# Altium footprint library con-hirose.PCBLIB: 71 footprints (part 2 of 6)
Each footprint in its own frame and in the unit in brackets; x right, y up, seen from the top. Pads: shape width x height; smd on the part's side, far side on the other; paste and mask are expansions set on the pad; w line width, h text height; cw(c..) or ccw(c..) is an arc to the next point about the centre after c.
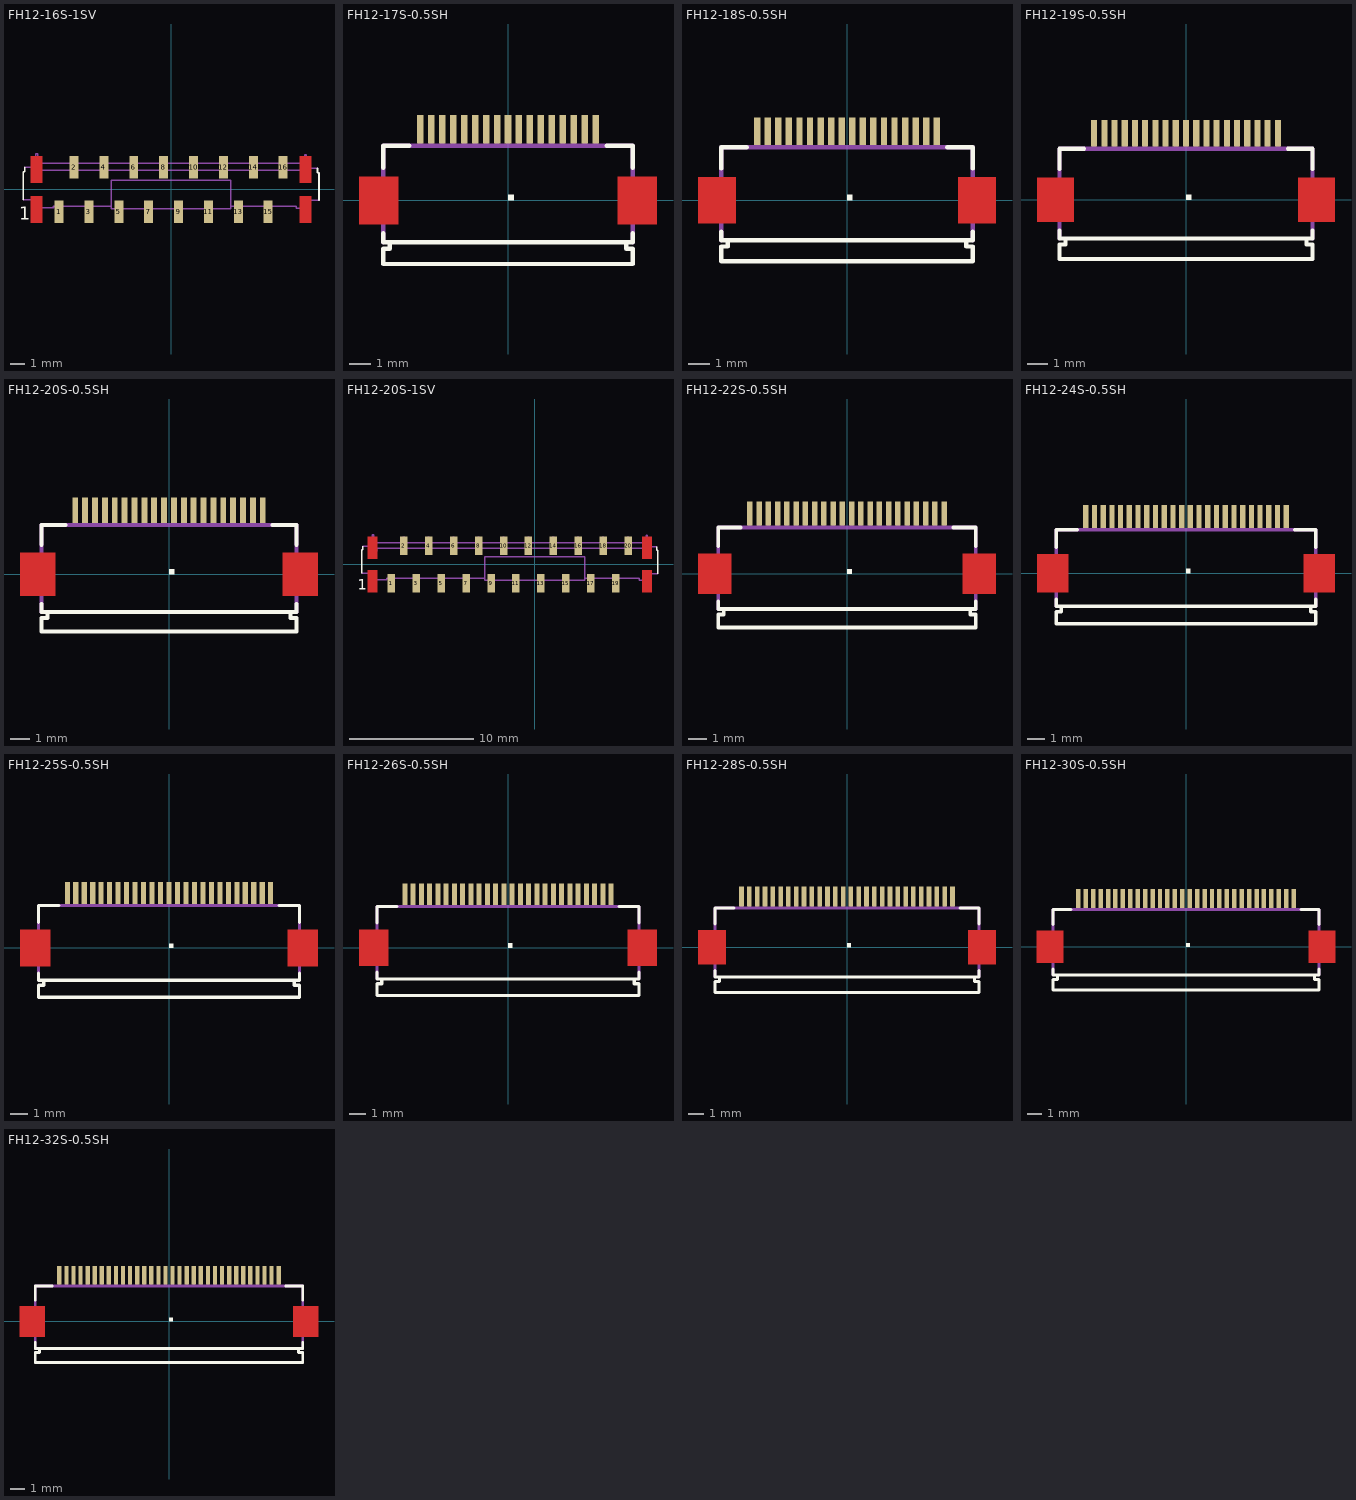
[diagram p1: the footprints below, top view; thin cyan lines are the x and y axes]

## FH12-16S-1SV [mm]
pads (16):
  rect 0.6x1.5 smd: 1(-7.5,-1.5) 2(-6.5,1.5) 3(-5.5,-1.5) 4(-4.5,1.5) 5(-3.5,-1.5) 6(-2.5,1.5) 7(-1.5,-1.5) 8(-0.5,1.5) 9(0.5,-1.5) 10(1.5,1.5) 11(2.5,-1.5) 12(3.5,1.5) 13(4.5,-1.5) 14(5.5,1.5) 15(6.5,-1.5) 16(7.5,1.5)
Top Layer:
  rectangle: -9.4,0.45 -8.6,2.25
  rectangle: -9.4,-2.25 -8.6,-0.45
  region: 9.4,-0.45 8.6,-0.45 8.6,-2.25 9.4,-2.25
  region: 9.4,2.25 8.6,2.25 8.6,0.45 9.4,0.45
Top Overlay:
  lines w0.102: -9.9,-0.697 -9.9,1.179 -9.8,1.179 -9.8,1.478 ; 9.8,1.427 9.8,1.129 9.9,1.129 9.9,-0.731
  text "1" at -10.182,-2.042 h0.86
Top Paste:
  rectangle: -7.75,-2.2 -7.25,-0.8
  rectangle: -6.75,0.8 -6.25,2.2
  rectangle: -5.75,-2.2 -5.25,-0.8
  rectangle: -4.75,0.8 -4.25,2.2
  rectangle: -3.75,-2.2 -3.25,-0.8
  rectangle: -2.75,0.8 -2.25,2.2
  rectangle: -1.75,-2.2 -1.25,-0.8
  rectangle: -0.75,0.8 -0.25,2.2
  rectangle: 0.25,-2.2 0.75,-0.8
  rectangle: 1.25,0.8 1.75,2.2
  rectangle: 2.25,-2.2 2.75,-0.8
  rectangle: 3.25,0.8 3.75,2.2
  rectangle: 4.25,-2.2 4.75,-0.8
  rectangle: 5.25,0.8 5.75,2.2
  rectangle: 6.25,-2.2 6.75,-0.8
  rectangle: 7.25,0.8 7.75,2.2
  rectangle: -9.35,0.5 -8.65,2.2
  rectangle: -9.35,-2.2 -8.65,-0.5
  region: 9.35,-0.5 8.65,-0.5 8.65,-2.2 9.35,-2.2
  region: 9.35,2.2 8.65,2.2 8.65,0.5 9.35,0.5
Top Solder:
  rectangle: -7.85,-2.3 -7.15,-0.7
  rectangle: -6.85,0.7 -6.15,2.3
  rectangle: -5.85,-2.3 -5.15,-0.7
  rectangle: -4.85,0.7 -4.15,2.3
  rectangle: -3.85,-2.3 -3.15,-0.7
  rectangle: -2.85,0.7 -2.15,2.3
  rectangle: -1.85,-2.3 -1.15,-0.7
  rectangle: -0.85,0.7 -0.15,2.3
  rectangle: 0.15,-2.3 0.85,-0.7
  rectangle: 1.15,0.7 1.85,2.3
  rectangle: 2.15,-2.3 2.85,-0.7
  rectangle: 3.15,0.7 3.85,2.3
  rectangle: 4.15,-2.3 4.85,-0.7
  rectangle: 5.15,0.7 5.85,2.3
  rectangle: 6.15,-2.3 6.85,-0.7
  rectangle: 7.15,0.7 7.85,2.3
  rectangle: -9.475,0.375 -8.525,2.325
  rectangle: -9.475,-2.325 -8.525,-0.375
  region: 9.475,-0.375 8.525,-0.375 8.525,-2.325 9.475,-2.325
  region: 9.475,2.325 8.525,2.325 8.525,0.375 9.475,0.375
Mechanical 16:
  rectangle: 7.375,0.78 7.607,1.478
  rectangle: 5.375,0.78 5.607,1.478
  rectangle: 3.375,0.78 3.607,1.478
  rectangle: 1.375,0.78 1.607,1.478
  rectangle: -0.625,0.78 -0.393,1.478
  rectangle: -2.625,0.78 -2.393,1.478
  rectangle: -4.625,0.78 -4.393,1.478
  rectangle: -6.625,0.78 -6.393,1.478
  region: 6.625,-0.78 6.393,-0.78 6.393,-1.478 6.625,-1.478
  region: 4.625,-0.78 4.393,-0.78 4.393,-1.478 4.625,-1.478
  region: 2.625,-0.78 2.393,-0.78 2.393,-1.478 2.625,-1.478
  region: 0.625,-0.78 0.393,-0.78 0.393,-1.478 0.625,-1.478
  region: -1.375,-0.78 -1.607,-0.78 -1.607,-1.478 -1.375,-1.478
  region: -3.375,-0.78 -3.607,-0.78 -3.607,-1.478 -3.375,-1.478
  region: -5.375,-0.78 -5.607,-0.78 -5.607,-1.478 -5.375,-1.478
  region: -7.375,-0.78 -7.607,-0.78 -7.607,-1.478 -7.375,-1.478
  rectangle: 7.408,1.726 7.574,2.224
  rectangle: 5.408,1.726 5.574,2.224
  rectangle: 3.408,1.726 3.574,2.224
  rectangle: 1.408,1.726 1.574,2.224
  rectangle: -0.592,1.726 -0.426,2.224
  rectangle: -2.592,1.726 -2.426,2.224
  rectangle: -4.592,1.726 -4.426,2.224
  rectangle: -6.592,1.726 -6.426,2.224
  lines w0.102: -9.9,-0.697 -9.285,-0.697 -9.285,-1.145 -9.153,-1.145 -9.153,-1.228 -7.872,-1.228 -7.872,-1.129 -4.008,-1.129 ; -9.8,1.478 -9.053,1.478 -9.053,2.39 -8.92,2.39 -8.92,1.743 8.821,1.743 ; -9.053,-1.278 -9.053,-1.378 -8.904,-1.378 -8.904,-1.278 ; -8.804,1.71 -8.804,1.046 -8.688,1.046 -8.688,1.278 8.688,1.278 8.688,0.979 8.821,0.979 8.821,1.743 ; -4.002,0.614 -4.002,-1.278 4.002,-1.278 4.002,-1.129 ; -4,0.614 4,0.614 ; 4.002,0.614 4.002,-1.129 ; 8.92,-1.311 8.92,-1.411 9.07,-1.411 9.07,-1.311 ; 9.8,1.427 9.053,1.427 9.053,2.324 8.937,2.324 8.937,1.693 8.821,1.743 ; 9.9,-0.731 9.302,-0.731 9.302,-1.195 9.153,-1.195 9.153,-1.262 8.389,-1.262 8.389,-1.129 4.002,-1.129

## FH12-17S-0.5SH [mm]
pads (17):
  rect 0.3x1.3 smd: 1(-4,3.25) 2(-3.5,3.25) 3(-3,3.25) 4(-2.5,3.25) 5(-2,3.25) 6(-1.5,3.25) 7(-1,3.25) 8(-0.5,3.25) 9(0,3.25) 10(0.5,3.25) 11(1,3.25) 12(1.5,3.25) 13(2,3.25) 14(2.5,3.25) 15(3,3.25) 16(3.5,3.25) 17(4,3.25)
Top Layer:
  region: 6.8,1.1 5,1.1 5,-1.1 6.8,-1.1
  region: -5,1.1 -6.8,1.1 -6.8,-1.1 -5,-1.1
Top Overlay:
  region: 0,0 0.254,0 0.254,0.254 0,0.254
  lines w0.203: -5.7,-1.5 -5.7,-1.9 -5.4,-1.9 ; -5.7,1.5 -5.7,2.5 -4.5,2.5 ; 4.5,2.5 5.7,2.5 5.7,1.5 ; 5.7,-1.5 5.7,-1.9 5.4,-1.9 ; -5.4,-1.9 -5.4,-2.2 -5.7,-2.2 -5.7,-2.9 5.7,-2.9 5.7,-2.2 5.4,-2.2 5.4,-1.9 ; -5.4,-1.9 5.4,-1.9
Top Paste:
  rectangle: -4.125,2.625 -3.875,3.875
  rectangle: -3.625,2.625 -3.375,3.875
  rectangle: -3.125,2.625 -2.875,3.875
  rectangle: -2.625,2.625 -2.375,3.875
  rectangle: -2.125,2.625 -1.875,3.875
  rectangle: -1.625,2.625 -1.375,3.875
  rectangle: -1.125,2.625 -0.875,3.875
  rectangle: -0.625,2.625 -0.375,3.875
  rectangle: -0.125,2.625 0.125,3.875
  rectangle: 0.375,2.625 0.625,3.875
  rectangle: 0.875,2.625 1.125,3.875
  rectangle: 1.375,2.625 1.625,3.875
  rectangle: 1.875,2.625 2.125,3.875
  rectangle: 2.375,2.625 2.625,3.875
  rectangle: 2.875,2.625 3.125,3.875
  rectangle: 3.375,2.625 3.625,3.875
  rectangle: 3.875,2.625 4.125,3.875
  region: 6.725,1.025 5.075,1.025 5.075,-1.025 6.725,-1.025
  region: -5.075,1.025 -6.725,1.025 -6.725,-1.025 -5.075,-1.025
Top Solder:
  rectangle: -4.2,2.55 -3.8,3.95
  rectangle: -3.7,2.55 -3.3,3.95
  rectangle: -3.2,2.55 -2.8,3.95
  rectangle: -2.7,2.55 -2.3,3.95
  rectangle: -2.2,2.55 -1.8,3.95
  rectangle: -1.7,2.55 -1.3,3.95
  rectangle: -1.2,2.55 -0.8,3.95
  rectangle: -0.7,2.55 -0.3,3.95
  rectangle: -0.2,2.55 0.2,3.95
  rectangle: 0.3,2.55 0.7,3.95
  rectangle: 0.8,2.55 1.2,3.95
  rectangle: 1.3,2.55 1.7,3.95
  rectangle: 1.8,2.55 2.2,3.95
  rectangle: 2.3,2.55 2.7,3.95
  rectangle: 2.8,2.55 3.2,3.95
  rectangle: 3.3,2.55 3.7,3.95
  rectangle: 3.8,2.55 4.2,3.95
  region: 6.85,1.175 4.95,1.175 4.95,-1.175 6.85,-1.175
  region: -4.95,1.175 -6.85,1.175 -6.85,-1.175 -4.95,-1.175
Mechanical 16:
  rectangle: -4.1,2.55 -3.9,3.4
  rectangle: -3.6,2.55 -3.4,3.4
  rectangle: -3.1,2.55 -2.9,3.4
  rectangle: -2.6,2.55 -2.4,3.4
  rectangle: -2.1,2.55 -1.9,3.4
  rectangle: -1.6,2.55 -1.4,3.4
  rectangle: -1.1,2.55 -0.9,3.4
  rectangle: -0.6,2.55 -0.4,3.4
  rectangle: -0.1,2.55 0.1,3.4
  rectangle: 0.4,2.55 0.6,3.4
  rectangle: 0.9,2.55 1.1,3.4
  rectangle: 1.4,2.55 1.6,3.4
  rectangle: 1.9,2.55 2.1,3.4
  rectangle: 2.4,2.55 2.6,3.4
  rectangle: 2.9,2.55 3.1,3.4
  rectangle: 3.4,2.55 3.6,3.4
  rectangle: 3.9,2.55 4.1,3.4
  lines w0.203: -5.7,-1.9 -5.7,-0.5 -6.2,-0.5 -6.2,0.5 -5.7,0.5 -5.7,2.5 5.7,2.5 5.7,0.5 6.2,0.5 6.2,-0.5 5.7,-0.5 5.7,-1.9

## FH12-18S-0.5SH [mm]
pads (18):
  rect 0.3x1.3 smd: 1(-4.25,3.25) 2(-3.75,3.25) 3(-3.25,3.25) 4(-2.75,3.25) 5(-2.25,3.25) 6(-1.75,3.25) 7(-1.25,3.25) 8(-0.75,3.25) 9(-0.25,3.25) 10(0.25,3.25) 11(0.75,3.25) 12(1.25,3.25) 13(1.75,3.25) 14(2.25,3.25) 15(2.75,3.25) 16(3.25,3.25) 17(3.75,3.25) 18(4.25,3.25)
Top Layer:
  region: 7.05,1.1 5.25,1.1 5.25,-1.1 7.05,-1.1
  region: -5.25,1.1 -7.05,1.1 -7.05,-1.1 -5.25,-1.1
Top Overlay:
  region: 0,0 0.254,0 0.254,0.254 0,0.254
  lines w0.203: -5.95,-1.5 -5.95,-1.9 -5.65,-1.9 ; -5.95,1.5 -5.95,2.5 -4.75,2.5 ; 4.75,2.5 5.95,2.5 5.95,1.5 ; 5.95,-1.5 5.95,-1.9 5.65,-1.9 ; -5.65,-1.9 -5.65,-2.2 -5.95,-2.2 -5.95,-2.9 5.95,-2.9 5.95,-2.2 5.65,-2.2 5.65,-1.9 ; -5.65,-1.9 5.65,-1.9
Top Paste:
  rectangle: -4.375,2.625 -4.125,3.875
  rectangle: -3.875,2.625 -3.625,3.875
  rectangle: -3.375,2.625 -3.125,3.875
  rectangle: -2.875,2.625 -2.625,3.875
  rectangle: -2.375,2.625 -2.125,3.875
  rectangle: -1.875,2.625 -1.625,3.875
  rectangle: -1.375,2.625 -1.125,3.875
  rectangle: -0.875,2.625 -0.625,3.875
  rectangle: -0.375,2.625 -0.125,3.875
  rectangle: 0.125,2.625 0.375,3.875
  rectangle: 0.625,2.625 0.875,3.875
  rectangle: 1.125,2.625 1.375,3.875
  rectangle: 1.625,2.625 1.875,3.875
  rectangle: 2.125,2.625 2.375,3.875
  rectangle: 2.625,2.625 2.875,3.875
  rectangle: 3.125,2.625 3.375,3.875
  rectangle: 3.625,2.625 3.875,3.875
  rectangle: 4.125,2.625 4.375,3.875
  region: 6.975,1.025 5.325,1.025 5.325,-1.025 6.975,-1.025
  region: -5.325,1.025 -6.975,1.025 -6.975,-1.025 -5.325,-1.025
Top Solder:
  rectangle: -4.45,2.55 -4.05,3.95
  rectangle: -3.95,2.55 -3.55,3.95
  rectangle: -3.45,2.55 -3.05,3.95
  rectangle: -2.95,2.55 -2.55,3.95
  rectangle: -2.45,2.55 -2.05,3.95
  rectangle: -1.95,2.55 -1.55,3.95
  rectangle: -1.45,2.55 -1.05,3.95
  rectangle: -0.95,2.55 -0.55,3.95
  rectangle: -0.45,2.55 -0.05,3.95
  rectangle: 0.05,2.55 0.45,3.95
  rectangle: 0.55,2.55 0.95,3.95
  rectangle: 1.05,2.55 1.45,3.95
  rectangle: 1.55,2.55 1.95,3.95
  rectangle: 2.05,2.55 2.45,3.95
  rectangle: 2.55,2.55 2.95,3.95
  rectangle: 3.05,2.55 3.45,3.95
  rectangle: 3.55,2.55 3.95,3.95
  rectangle: 4.05,2.55 4.45,3.95
  region: 7.1,1.175 5.2,1.175 5.2,-1.175 7.1,-1.175
  region: -5.2,1.175 -7.1,1.175 -7.1,-1.175 -5.2,-1.175
Mechanical 16:
  rectangle: -4.35,2.55 -4.15,3.4
  rectangle: -3.85,2.55 -3.65,3.4
  rectangle: -3.35,2.55 -3.15,3.4
  rectangle: -2.85,2.55 -2.65,3.4
  rectangle: -2.35,2.55 -2.15,3.4
  rectangle: -1.85,2.55 -1.65,3.4
  rectangle: -1.35,2.55 -1.15,3.4
  rectangle: -0.85,2.55 -0.65,3.4
  rectangle: -0.35,2.55 -0.15,3.4
  rectangle: 0.15,2.55 0.35,3.4
  rectangle: 0.65,2.55 0.85,3.4
  rectangle: 1.15,2.55 1.35,3.4
  rectangle: 1.65,2.55 1.85,3.4
  rectangle: 2.15,2.55 2.35,3.4
  rectangle: 2.65,2.55 2.85,3.4
  rectangle: 3.15,2.55 3.35,3.4
  rectangle: 3.65,2.55 3.85,3.4
  rectangle: 4.15,2.55 4.35,3.4
  lines w0.203: -5.95,-1.9 -5.95,-0.5 -6.45,-0.5 -6.45,0.5 -5.95,0.5 -5.95,2.5 5.95,2.5 5.95,0.5 6.45,0.5 6.45,-0.5 5.95,-0.5 5.95,-1.9

## FH12-19S-0.5SH [mm]
pads (19):
  rect 0.3x1.3 smd: 1(-4.5,3.25) 2(-4,3.25) 3(-3.5,3.25) 4(-3,3.25) 5(-2.5,3.25) 6(-2,3.25) 7(-1.5,3.25) 8(-1,3.25) 9(-0.5,3.25) 10(0,3.25) 11(0.5,3.25) 12(1,3.25) 13(1.5,3.25) 14(2,3.25) 15(2.5,3.25) 16(3,3.25) 17(3.5,3.25) 18(4,3.25) 19(4.5,3.25)
Top Layer:
  region: 7.3,1.1 5.5,1.1 5.5,-1.1 7.3,-1.1
  region: -5.5,1.1 -7.3,1.1 -7.3,-1.1 -5.5,-1.1
Top Overlay:
  region: 0,0 0.254,0 0.254,0.254 0,0.254
  lines w0.203: -6.2,-1.5 -6.2,-1.9 -5.9,-1.9 ; -6.2,1.5 -6.2,2.5 -5,2.5 ; 5,2.5 6.2,2.5 6.2,1.5 ; 6.2,-1.5 6.2,-1.9 5.9,-1.9 ; -5.9,-1.9 -5.9,-2.2 -6.2,-2.2 -6.2,-2.9 6.2,-2.9 6.2,-2.2 5.9,-2.2 5.9,-1.9 ; -5.9,-1.9 5.9,-1.9
Top Paste:
  rectangle: -4.625,2.625 -4.375,3.875
  rectangle: -4.125,2.625 -3.875,3.875
  rectangle: -3.625,2.625 -3.375,3.875
  rectangle: -3.125,2.625 -2.875,3.875
  rectangle: -2.625,2.625 -2.375,3.875
  rectangle: -2.125,2.625 -1.875,3.875
  rectangle: -1.625,2.625 -1.375,3.875
  rectangle: -1.125,2.625 -0.875,3.875
  rectangle: -0.625,2.625 -0.375,3.875
  rectangle: -0.125,2.625 0.125,3.875
  rectangle: 0.375,2.625 0.625,3.875
  rectangle: 0.875,2.625 1.125,3.875
  rectangle: 1.375,2.625 1.625,3.875
  rectangle: 1.875,2.625 2.125,3.875
  rectangle: 2.375,2.625 2.625,3.875
  rectangle: 2.875,2.625 3.125,3.875
  rectangle: 3.375,2.625 3.625,3.875
  rectangle: 3.875,2.625 4.125,3.875
  rectangle: 4.375,2.625 4.625,3.875
  region: 7.225,1.025 5.575,1.025 5.575,-1.025 7.225,-1.025
  region: -5.575,1.025 -7.225,1.025 -7.225,-1.025 -5.575,-1.025
Top Solder:
  rectangle: -4.7,2.55 -4.3,3.95
  rectangle: -4.2,2.55 -3.8,3.95
  rectangle: -3.7,2.55 -3.3,3.95
  rectangle: -3.2,2.55 -2.8,3.95
  rectangle: -2.7,2.55 -2.3,3.95
  rectangle: -2.2,2.55 -1.8,3.95
  rectangle: -1.7,2.55 -1.3,3.95
  rectangle: -1.2,2.55 -0.8,3.95
  rectangle: -0.7,2.55 -0.3,3.95
  rectangle: -0.2,2.55 0.2,3.95
  rectangle: 0.3,2.55 0.7,3.95
  rectangle: 0.8,2.55 1.2,3.95
  rectangle: 1.3,2.55 1.7,3.95
  rectangle: 1.8,2.55 2.2,3.95
  rectangle: 2.3,2.55 2.7,3.95
  rectangle: 2.8,2.55 3.2,3.95
  rectangle: 3.3,2.55 3.7,3.95
  rectangle: 3.8,2.55 4.2,3.95
  rectangle: 4.3,2.55 4.7,3.95
  region: 7.35,1.175 5.45,1.175 5.45,-1.175 7.35,-1.175
  region: -5.45,1.175 -7.35,1.175 -7.35,-1.175 -5.45,-1.175
Mechanical 16:
  rectangle: -4.6,2.55 -4.4,3.4
  rectangle: -4.1,2.55 -3.9,3.4
  rectangle: -3.6,2.55 -3.4,3.4
  rectangle: -3.1,2.55 -2.9,3.4
  rectangle: -2.6,2.55 -2.4,3.4
  rectangle: -2.1,2.55 -1.9,3.4
  rectangle: -1.6,2.55 -1.4,3.4
  rectangle: -1.1,2.55 -0.9,3.4
  rectangle: -0.6,2.55 -0.4,3.4
  rectangle: -0.1,2.55 0.1,3.4
  rectangle: 0.4,2.55 0.6,3.4
  rectangle: 0.9,2.55 1.1,3.4
  rectangle: 1.4,2.55 1.6,3.4
  rectangle: 1.9,2.55 2.1,3.4
  rectangle: 2.4,2.55 2.6,3.4
  rectangle: 2.9,2.55 3.1,3.4
  rectangle: 3.4,2.55 3.6,3.4
  rectangle: 3.9,2.55 4.1,3.4
  rectangle: 4.4,2.55 4.6,3.4
  lines w0.203: -6.2,-1.9 -6.2,-0.5 -6.7,-0.5 -6.7,0.5 -6.2,0.5 -6.2,2.5 6.2,2.5 6.2,0.5 6.7,0.5 6.7,-0.5 6.2,-0.5 6.2,-1.9

## FH12-20S-0.5SH [mm]
pads (20):
  rect 0.3x1.3 smd: 1(-4.75,3.25) 2(-4.25,3.25) 3(-3.75,3.25) 4(-3.25,3.25) 5(-2.75,3.25) 6(-2.25,3.25) 7(-1.75,3.25) 8(-1.25,3.25) 9(-0.75,3.25) 10(-0.25,3.25) 11(0.25,3.25) 12(0.75,3.25) 13(1.25,3.25) 14(1.75,3.25) 15(2.25,3.25) 16(2.75,3.25) 17(3.25,3.25) 18(3.75,3.25) 19(4.25,3.25) 20(4.75,3.25)
Top Layer:
  region: 7.55,1.1 5.75,1.1 5.75,-1.1 7.55,-1.1
  region: -5.75,1.1 -7.55,1.1 -7.55,-1.1 -5.75,-1.1
Top Overlay:
  region: 0,0 0.254,0 0.254,0.254 0,0.254
  lines w0.203: -6.45,-1.5 -6.45,-1.9 -6.15,-1.9 ; -6.45,1.5 -6.45,2.5 -5.25,2.5 ; 5.25,2.5 6.45,2.5 6.45,1.5 ; 6.45,-1.5 6.45,-1.9 6.15,-1.9 ; -6.15,-1.9 -6.15,-2.2 -6.45,-2.2 -6.45,-2.9 6.45,-2.9 6.45,-2.2 6.15,-2.2 6.15,-1.9 ; -6.15,-1.9 6.15,-1.9
Top Paste:
  rectangle: -4.875,2.625 -4.625,3.875
  rectangle: -4.375,2.625 -4.125,3.875
  rectangle: -3.875,2.625 -3.625,3.875
  rectangle: -3.375,2.625 -3.125,3.875
  rectangle: -2.875,2.625 -2.625,3.875
  rectangle: -2.375,2.625 -2.125,3.875
  rectangle: -1.875,2.625 -1.625,3.875
  rectangle: -1.375,2.625 -1.125,3.875
  rectangle: -0.875,2.625 -0.625,3.875
  rectangle: -0.375,2.625 -0.125,3.875
  rectangle: 0.125,2.625 0.375,3.875
  rectangle: 0.625,2.625 0.875,3.875
  rectangle: 1.125,2.625 1.375,3.875
  rectangle: 1.625,2.625 1.875,3.875
  rectangle: 2.125,2.625 2.375,3.875
  rectangle: 2.625,2.625 2.875,3.875
  rectangle: 3.125,2.625 3.375,3.875
  rectangle: 3.625,2.625 3.875,3.875
  rectangle: 4.125,2.625 4.375,3.875
  rectangle: 4.625,2.625 4.875,3.875
  region: 7.475,1.025 5.825,1.025 5.825,-1.025 7.475,-1.025
  region: -5.825,1.025 -7.475,1.025 -7.475,-1.025 -5.825,-1.025
Top Solder:
  rectangle: -4.95,2.55 -4.55,3.95
  rectangle: -4.45,2.55 -4.05,3.95
  rectangle: -3.95,2.55 -3.55,3.95
  rectangle: -3.45,2.55 -3.05,3.95
  rectangle: -2.95,2.55 -2.55,3.95
  rectangle: -2.45,2.55 -2.05,3.95
  rectangle: -1.95,2.55 -1.55,3.95
  rectangle: -1.45,2.55 -1.05,3.95
  rectangle: -0.95,2.55 -0.55,3.95
  rectangle: -0.45,2.55 -0.05,3.95
  rectangle: 0.05,2.55 0.45,3.95
  rectangle: 0.55,2.55 0.95,3.95
  rectangle: 1.05,2.55 1.45,3.95
  rectangle: 1.55,2.55 1.95,3.95
  rectangle: 2.05,2.55 2.45,3.95
  rectangle: 2.55,2.55 2.95,3.95
  rectangle: 3.05,2.55 3.45,3.95
  rectangle: 3.55,2.55 3.95,3.95
  rectangle: 4.05,2.55 4.45,3.95
  rectangle: 4.55,2.55 4.95,3.95
  region: 7.6,1.175 5.7,1.175 5.7,-1.175 7.6,-1.175
  region: -5.7,1.175 -7.6,1.175 -7.6,-1.175 -5.7,-1.175
Mechanical 16:
  rectangle: -4.85,2.55 -4.65,3.4
  rectangle: -4.35,2.55 -4.15,3.4
  rectangle: -3.85,2.55 -3.65,3.4
  rectangle: -3.35,2.55 -3.15,3.4
  rectangle: -2.85,2.55 -2.65,3.4
  rectangle: -2.35,2.55 -2.15,3.4
  rectangle: -1.85,2.55 -1.65,3.4
  rectangle: -1.35,2.55 -1.15,3.4
  rectangle: -0.85,2.55 -0.65,3.4
  rectangle: -0.35,2.55 -0.15,3.4
  rectangle: 0.15,2.55 0.35,3.4
  rectangle: 0.65,2.55 0.85,3.4
  rectangle: 1.15,2.55 1.35,3.4
  rectangle: 1.65,2.55 1.85,3.4
  rectangle: 2.15,2.55 2.35,3.4
  rectangle: 2.65,2.55 2.85,3.4
  rectangle: 3.15,2.55 3.35,3.4
  rectangle: 3.65,2.55 3.85,3.4
  rectangle: 4.15,2.55 4.35,3.4
  rectangle: 4.65,2.55 4.85,3.4
  lines w0.203: -6.45,-1.9 -6.45,-0.5 -6.95,-0.5 -6.95,0.5 -6.45,0.5 -6.45,2.5 6.45,2.5 6.45,0.5 6.95,0.5 6.95,-0.5 6.45,-0.5 6.45,-1.9

## FH12-20S-1SV [mm]
pads (20):
  rect 0.6x1.5 smd: 1(-11.5,-1.5) 2(-10.5,1.5) 3(-9.5,-1.5) 4(-8.5,1.5) 5(-7.5,-1.5) 6(-6.5,1.5) 7(-5.5,-1.5) 8(-4.5,1.5) 9(-3.5,-1.5) 10(-2.5,1.5) 11(-1.5,-1.5) 12(-0.5,1.5) 13(0.5,-1.5) 14(1.5,1.5) 15(2.5,-1.5) 16(3.5,1.5) 17(4.5,-1.5) 18(5.5,1.5) 19(6.5,-1.5) 20(7.5,1.5)
Top Layer:
  rectangle: -13.4,0.45 -12.6,2.25
  rectangle: -13.4,-2.25 -12.6,-0.45
  region: 9.4,-0.45 8.6,-0.45 8.6,-2.25 9.4,-2.25
  region: 9.4,2.25 8.6,2.25 8.6,0.45 9.4,0.45
Top Overlay:
  lines w0.102: -13.9,-0.697 -13.9,1.179 -13.8,1.179 -13.8,1.478 ; 9.8,1.427 9.8,1.129 9.9,1.129 9.9,-0.731
  text "1" at -14.182,-2.042 h0.86
Top Paste:
  rectangle: -11.75,-2.2 -11.25,-0.8
  rectangle: -10.75,0.8 -10.25,2.2
  rectangle: -9.75,-2.2 -9.25,-0.8
  rectangle: -8.75,0.8 -8.25,2.2
  rectangle: -7.75,-2.2 -7.25,-0.8
  rectangle: -6.75,0.8 -6.25,2.2
  rectangle: -5.75,-2.2 -5.25,-0.8
  rectangle: -4.75,0.8 -4.25,2.2
  rectangle: -3.75,-2.2 -3.25,-0.8
  rectangle: -2.75,0.8 -2.25,2.2
  rectangle: -1.75,-2.2 -1.25,-0.8
  rectangle: -0.75,0.8 -0.25,2.2
  rectangle: 0.25,-2.2 0.75,-0.8
  rectangle: 1.25,0.8 1.75,2.2
  rectangle: 2.25,-2.2 2.75,-0.8
  rectangle: 3.25,0.8 3.75,2.2
  rectangle: -13.35,0.5 -12.65,2.2
  rectangle: -13.35,-2.2 -12.65,-0.5
  region: 9.35,-0.5 8.65,-0.5 8.65,-2.2 9.35,-2.2
  region: 9.35,2.2 8.65,2.2 8.65,0.5 9.35,0.5
  rectangle: 4.25,-2.2 4.75,-0.8
  rectangle: 5.25,0.8 5.75,2.2
  rectangle: 6.25,-2.2 6.75,-0.8
  rectangle: 7.25,0.8 7.75,2.2
Top Solder:
  rectangle: -11.85,-2.3 -11.15,-0.7
  rectangle: -10.85,0.7 -10.15,2.3
  rectangle: -9.85,-2.3 -9.15,-0.7
  rectangle: -8.85,0.7 -8.15,2.3
  rectangle: -7.85,-2.3 -7.15,-0.7
  rectangle: -6.85,0.7 -6.15,2.3
  rectangle: -5.85,-2.3 -5.15,-0.7
  rectangle: -4.85,0.7 -4.15,2.3
  rectangle: -3.85,-2.3 -3.15,-0.7
  rectangle: -2.85,0.7 -2.15,2.3
  rectangle: -1.85,-2.3 -1.15,-0.7
  rectangle: -0.85,0.7 -0.15,2.3
  rectangle: 0.15,-2.3 0.85,-0.7
  rectangle: 1.15,0.7 1.85,2.3
  rectangle: 2.15,-2.3 2.85,-0.7
  rectangle: 3.15,0.7 3.85,2.3
  rectangle: -13.475,0.375 -12.525,2.325
  rectangle: -13.475,-2.325 -12.525,-0.375
  region: 9.475,-0.375 8.525,-0.375 8.525,-2.325 9.475,-2.325
  region: 9.475,2.325 8.525,2.325 8.525,0.375 9.475,0.375
  rectangle: 4.15,-2.3 4.85,-0.7
  rectangle: 5.15,0.7 5.85,2.3
  rectangle: 6.15,-2.3 6.85,-0.7
  rectangle: 7.15,0.7 7.85,2.3
Mechanical 16:
  rectangle: 3.375,0.78 3.607,1.478
  rectangle: 1.375,0.78 1.607,1.478
  rectangle: -0.625,0.78 -0.393,1.478
  rectangle: -2.625,0.78 -2.393,1.478
  rectangle: -4.625,0.78 -4.393,1.478
  rectangle: -6.625,0.78 -6.393,1.478
  rectangle: -8.625,0.78 -8.393,1.478
  rectangle: -10.625,0.78 -10.393,1.478
  region: 2.625,-0.78 2.393,-0.78 2.393,-1.478 2.625,-1.478
  region: 0.625,-0.78 0.393,-0.78 0.393,-1.478 0.625,-1.478
  region: -1.375,-0.78 -1.607,-0.78 -1.607,-1.478 -1.375,-1.478
  region: -3.375,-0.78 -3.607,-0.78 -3.607,-1.478 -3.375,-1.478
  region: -5.375,-0.78 -5.607,-0.78 -5.607,-1.478 -5.375,-1.478
  region: -7.375,-0.78 -7.607,-0.78 -7.607,-1.478 -7.375,-1.478
  region: -9.375,-0.78 -9.607,-0.78 -9.607,-1.478 -9.375,-1.478
  region: -11.375,-0.78 -11.607,-0.78 -11.607,-1.478 -11.375,-1.478
  rectangle: 3.408,1.726 3.574,2.224
  rectangle: 1.408,1.726 1.574,2.224
  rectangle: -0.592,1.726 -0.426,2.224
  rectangle: -2.592,1.726 -2.426,2.224
  rectangle: -4.592,1.726 -4.426,2.224
  rectangle: -6.592,1.726 -6.426,2.224
  rectangle: -8.592,1.726 -8.426,2.224
  rectangle: -10.592,1.726 -10.426,2.224
  rectangle: 5.375,0.78 5.607,1.478
  region: 4.625,-0.78 4.393,-0.78 4.393,-1.478 4.625,-1.478
  rectangle: 5.408,1.726 5.574,2.224
  rectangle: 7.375,0.78 7.607,1.478
  region: 6.625,-0.78 6.393,-0.78 6.393,-1.478 6.625,-1.478
  rectangle: 7.408,1.726 7.574,2.224
  lines w0.102: -13.9,-0.697 -13.286,-0.697 -13.286,-1.145 -13.153,-1.145 -13.153,-1.228 -11.873,-1.228 -11.873,-1.129 -4.008,-1.129 ; -13.8,1.478 -13.053,1.478 -13.053,2.39 -12.92,2.39 -12.92,1.743 8.821,1.743 ; -13.053,-1.278 -13.053,-1.378 -12.904,-1.378 -12.904,-1.278 ; -12.804,1.71 -12.804,1.046 -12.688,1.046 -12.688,1.278 8.688,1.278 8.688,0.979 8.821,0.979 8.821,1.743 ; -4.002,0.614 -4.002,-1.278 4.002,-1.278 4.002,-1.129 ; -4,0.614 4,0.614 ; 4.002,0.614 4.002,-1.129 ; 8.92,-1.311 8.92,-1.411 9.07,-1.411 9.07,-1.311 ; 9.8,1.427 9.053,1.427 9.053,2.324 8.937,2.324 8.937,1.693 8.821,1.743 ; 9.9,-0.731 9.302,-0.731 9.302,-1.195 9.153,-1.195 9.153,-1.262 8.389,-1.262 8.389,-1.129 4.002,-1.129

## FH12-22S-0.5SH [mm]
pads (22):
  rect 0.3x1.3 smd: 1(-5.25,3.25) 2(-4.75,3.25) 3(-4.25,3.25) 4(-3.75,3.25) 5(-3.25,3.25) 6(-2.75,3.25) 7(-2.25,3.25) 8(-1.75,3.25) 9(-1.25,3.25) 10(-0.75,3.25) 11(-0.25,3.25) 12(0.25,3.25) 13(0.75,3.25) 14(1.25,3.25) 15(1.75,3.25) 16(2.25,3.25) 17(2.75,3.25) 18(3.25,3.25) 19(3.75,3.25) 20(4.25,3.25) 21(4.75,3.25) 22(5.25,3.25)
Top Layer:
  region: 8.05,1.1 6.25,1.1 6.25,-1.1 8.05,-1.1
  region: -6.25,1.1 -8.05,1.1 -8.05,-1.1 -6.25,-1.1
Top Overlay:
  region: 0,0 0.254,0 0.254,0.254 0,0.254
  lines w0.203: -6.95,-1.5 -6.95,-1.9 -6.65,-1.9 ; -6.95,1.5 -6.95,2.5 -5.75,2.5 ; 5.75,2.5 6.95,2.5 6.95,1.5 ; 6.95,-1.5 6.95,-1.9 6.65,-1.9 ; -6.65,-1.9 -6.65,-2.2 -6.95,-2.2 -6.95,-2.9 6.95,-2.9 6.95,-2.2 6.65,-2.2 6.65,-1.9 ; -6.65,-1.9 6.65,-1.9
Top Paste:
  rectangle: -5.375,2.625 -5.125,3.875
  rectangle: -4.875,2.625 -4.625,3.875
  rectangle: -4.375,2.625 -4.125,3.875
  rectangle: -3.875,2.625 -3.625,3.875
  rectangle: -3.375,2.625 -3.125,3.875
  rectangle: -2.875,2.625 -2.625,3.875
  rectangle: -2.375,2.625 -2.125,3.875
  rectangle: -1.875,2.625 -1.625,3.875
  rectangle: -1.375,2.625 -1.125,3.875
  rectangle: -0.875,2.625 -0.625,3.875
  rectangle: -0.375,2.625 -0.125,3.875
  rectangle: 0.125,2.625 0.375,3.875
  rectangle: 0.625,2.625 0.875,3.875
  rectangle: 1.125,2.625 1.375,3.875
  rectangle: 1.625,2.625 1.875,3.875
  rectangle: 2.125,2.625 2.375,3.875
  rectangle: 2.625,2.625 2.875,3.875
  rectangle: 3.125,2.625 3.375,3.875
  rectangle: 3.625,2.625 3.875,3.875
  rectangle: 4.125,2.625 4.375,3.875
  rectangle: 4.625,2.625 4.875,3.875
  rectangle: 5.125,2.625 5.375,3.875
  region: 7.975,1.025 6.325,1.025 6.325,-1.025 7.975,-1.025
  region: -6.325,1.025 -7.975,1.025 -7.975,-1.025 -6.325,-1.025
Top Solder:
  rectangle: -5.45,2.55 -5.05,3.95
  rectangle: -4.95,2.55 -4.55,3.95
  rectangle: -4.45,2.55 -4.05,3.95
  rectangle: -3.95,2.55 -3.55,3.95
  rectangle: -3.45,2.55 -3.05,3.95
  rectangle: -2.95,2.55 -2.55,3.95
  rectangle: -2.45,2.55 -2.05,3.95
  rectangle: -1.95,2.55 -1.55,3.95
  rectangle: -1.45,2.55 -1.05,3.95
  rectangle: -0.95,2.55 -0.55,3.95
  rectangle: -0.45,2.55 -0.05,3.95
  rectangle: 0.05,2.55 0.45,3.95
  rectangle: 0.55,2.55 0.95,3.95
  rectangle: 1.05,2.55 1.45,3.95
  rectangle: 1.55,2.55 1.95,3.95
  rectangle: 2.05,2.55 2.45,3.95
  rectangle: 2.55,2.55 2.95,3.95
  rectangle: 3.05,2.55 3.45,3.95
  rectangle: 3.55,2.55 3.95,3.95
  rectangle: 4.05,2.55 4.45,3.95
  rectangle: 4.55,2.55 4.95,3.95
  rectangle: 5.05,2.55 5.45,3.95
  region: 8.1,1.175 6.2,1.175 6.2,-1.175 8.1,-1.175
  region: -6.2,1.175 -8.1,1.175 -8.1,-1.175 -6.2,-1.175
Mechanical 16:
  rectangle: -5.35,2.55 -5.15,3.4
  rectangle: -4.85,2.55 -4.65,3.4
  rectangle: -4.35,2.55 -4.15,3.4
  rectangle: -3.85,2.55 -3.65,3.4
  rectangle: -3.35,2.55 -3.15,3.4
  rectangle: -2.85,2.55 -2.65,3.4
  rectangle: -2.35,2.55 -2.15,3.4
  rectangle: -1.85,2.55 -1.65,3.4
  rectangle: -1.35,2.55 -1.15,3.4
  rectangle: -0.85,2.55 -0.65,3.4
  rectangle: -0.35,2.55 -0.15,3.4
  rectangle: 0.15,2.55 0.35,3.4
  rectangle: 0.65,2.55 0.85,3.4
  rectangle: 1.15,2.55 1.35,3.4
  rectangle: 1.65,2.55 1.85,3.4
  rectangle: 2.15,2.55 2.35,3.4
  rectangle: 2.65,2.55 2.85,3.4
  rectangle: 3.15,2.55 3.35,3.4
  rectangle: 3.65,2.55 3.85,3.4
  rectangle: 4.15,2.55 4.35,3.4
  rectangle: 4.65,2.55 4.85,3.4
  rectangle: 5.15,2.55 5.35,3.4
  lines w0.203: -6.95,-1.9 -6.95,-0.5 -7.45,-0.5 -7.45,0.5 -6.95,0.5 -6.95,2.5 6.95,2.5 6.95,0.5 7.45,0.5 7.45,-0.5 6.95,-0.5 6.95,-1.9

## FH12-24S-0.5SH [mm]
pads (24):
  rect 0.3x1.3 smd: 1(-5.75,3.25) 2(-5.25,3.25) 3(-4.75,3.25) 4(-4.25,3.25) 5(-3.75,3.25) 6(-3.25,3.25) 7(-2.75,3.25) 8(-2.25,3.25) 9(-1.75,3.25) 10(-1.25,3.25) 11(-0.75,3.25) 12(-0.25,3.25) 13(0.25,3.25) 14(0.75,3.25) 15(1.25,3.25) 16(1.75,3.25) 17(2.25,3.25) 18(2.75,3.25) 19(3.25,3.25) 20(3.75,3.25) 21(4.25,3.25) 22(4.75,3.25) 23(5.25,3.25) 24(5.75,3.25)
Top Layer:
  region: 8.55,1.1 6.75,1.1 6.75,-1.1 8.55,-1.1
  region: -6.75,1.1 -8.55,1.1 -8.55,-1.1 -6.75,-1.1
Top Overlay:
  region: 0,0 0.254,0 0.254,0.254 0,0.254
  lines w0.203: -7.45,-1.5 -7.45,-1.9 -7.15,-1.9 ; -7.45,1.5 -7.45,2.5 -6.25,2.5 ; 6.25,2.5 7.45,2.5 7.45,1.5 ; 7.45,-1.5 7.45,-1.9 7.15,-1.9 ; -7.15,-1.9 -7.15,-2.2 -7.45,-2.2 -7.45,-2.9 7.45,-2.9 7.45,-2.2 7.15,-2.2 7.15,-1.9 ; -7.15,-1.9 7.15,-1.9
Top Paste:
  rectangle: -5.875,2.625 -5.625,3.875
  rectangle: -5.375,2.625 -5.125,3.875
  rectangle: -4.875,2.625 -4.625,3.875
  rectangle: -4.375,2.625 -4.125,3.875
  rectangle: -3.875,2.625 -3.625,3.875
  rectangle: -3.375,2.625 -3.125,3.875
  rectangle: -2.875,2.625 -2.625,3.875
  rectangle: -2.375,2.625 -2.125,3.875
  rectangle: -1.875,2.625 -1.625,3.875
  rectangle: -1.375,2.625 -1.125,3.875
  rectangle: -0.875,2.625 -0.625,3.875
  rectangle: -0.375,2.625 -0.125,3.875
  rectangle: 0.125,2.625 0.375,3.875
  rectangle: 0.625,2.625 0.875,3.875
  rectangle: 1.125,2.625 1.375,3.875
  rectangle: 1.625,2.625 1.875,3.875
  rectangle: 2.125,2.625 2.375,3.875
  rectangle: 2.625,2.625 2.875,3.875
  rectangle: 3.125,2.625 3.375,3.875
  rectangle: 3.625,2.625 3.875,3.875
  rectangle: 4.125,2.625 4.375,3.875
  rectangle: 4.625,2.625 4.875,3.875
  rectangle: 5.125,2.625 5.375,3.875
  rectangle: 5.625,2.625 5.875,3.875
  region: 8.475,1.025 6.825,1.025 6.825,-1.025 8.475,-1.025
  region: -6.825,1.025 -8.475,1.025 -8.475,-1.025 -6.825,-1.025
Top Solder:
  rectangle: -5.95,2.55 -5.55,3.95
  rectangle: -5.45,2.55 -5.05,3.95
  rectangle: -4.95,2.55 -4.55,3.95
  rectangle: -4.45,2.55 -4.05,3.95
  rectangle: -3.95,2.55 -3.55,3.95
  rectangle: -3.45,2.55 -3.05,3.95
  rectangle: -2.95,2.55 -2.55,3.95
  rectangle: -2.45,2.55 -2.05,3.95
  rectangle: -1.95,2.55 -1.55,3.95
  rectangle: -1.45,2.55 -1.05,3.95
  rectangle: -0.95,2.55 -0.55,3.95
  rectangle: -0.45,2.55 -0.05,3.95
  rectangle: 0.05,2.55 0.45,3.95
  rectangle: 0.55,2.55 0.95,3.95
  rectangle: 1.05,2.55 1.45,3.95
  rectangle: 1.55,2.55 1.95,3.95
  rectangle: 2.05,2.55 2.45,3.95
  rectangle: 2.55,2.55 2.95,3.95
  rectangle: 3.05,2.55 3.45,3.95
  rectangle: 3.55,2.55 3.95,3.95
  rectangle: 4.05,2.55 4.45,3.95
  rectangle: 4.55,2.55 4.95,3.95
  rectangle: 5.05,2.55 5.45,3.95
  rectangle: 5.55,2.55 5.95,3.95
  region: 8.6,1.175 6.7,1.175 6.7,-1.175 8.6,-1.175
  region: -6.7,1.175 -8.6,1.175 -8.6,-1.175 -6.7,-1.175
Mechanical 16:
  rectangle: -5.85,2.55 -5.65,3.4
  rectangle: -5.35,2.55 -5.15,3.4
  rectangle: -4.85,2.55 -4.65,3.4
  rectangle: -4.35,2.55 -4.15,3.4
  rectangle: -3.85,2.55 -3.65,3.4
  rectangle: -3.35,2.55 -3.15,3.4
  rectangle: -2.85,2.55 -2.65,3.4
  rectangle: -2.35,2.55 -2.15,3.4
  rectangle: -1.85,2.55 -1.65,3.4
  rectangle: -1.35,2.55 -1.15,3.4
  rectangle: -0.85,2.55 -0.65,3.4
  rectangle: -0.35,2.55 -0.15,3.4
  rectangle: 0.15,2.55 0.35,3.4
  rectangle: 0.65,2.55 0.85,3.4
  rectangle: 1.15,2.55 1.35,3.4
  rectangle: 1.65,2.55 1.85,3.4
  rectangle: 2.15,2.55 2.35,3.4
  rectangle: 2.65,2.55 2.85,3.4
  rectangle: 3.15,2.55 3.35,3.4
  rectangle: 3.65,2.55 3.85,3.4
  rectangle: 4.15,2.55 4.35,3.4
  rectangle: 4.65,2.55 4.85,3.4
  rectangle: 5.15,2.55 5.35,3.4
  rectangle: 5.65,2.55 5.85,3.4
  lines w0.203: -7.45,-1.9 -7.45,-0.5 -7.95,-0.5 -7.95,0.5 -7.45,0.5 -7.45,2.5 7.45,2.5 7.45,0.5 7.95,0.5 7.95,-0.5 7.45,-0.5 7.45,-1.9

## FH12-25S-0.5SH [mm]
pads (25):
  rect 0.3x1.3 smd: 1(-6,3.25) 2(-5.5,3.25) 3(-5,3.25) 4(-4.5,3.25) 5(-4,3.25) 6(-3.5,3.25) 7(-3,3.25) 8(-2.5,3.25) 9(-2,3.25) 10(-1.5,3.25) 11(-1,3.25) 12(-0.5,3.25) 13(0,3.25) 14(0.5,3.25) 15(1,3.25) 16(1.5,3.25) 17(2,3.25) 18(2.5,3.25) 19(3,3.25) 20(3.5,3.25) 21(4,3.25) 22(4.5,3.25) 23(5,3.25) 24(5.5,3.25) 25(6,3.25)
Top Layer:
  region: 8.8,1.1 7,1.1 7,-1.1 8.8,-1.1
  region: -7,1.1 -8.8,1.1 -8.8,-1.1 -7,-1.1
Top Overlay:
  region: 0,0 0.254,0 0.254,0.254 0,0.254
  lines w0.203: -7.7,-1.5 -7.7,-1.9 -7.4,-1.9 ; -7.7,1.5 -7.7,2.5 -6.5,2.5 ; 6.5,2.5 7.7,2.5 7.7,1.5 ; 7.7,-1.5 7.7,-1.9 7.4,-1.9 ; -7.4,-1.9 -7.4,-2.2 -7.7,-2.2 -7.7,-2.9 7.7,-2.9 7.7,-2.2 7.4,-2.2 7.4,-1.9 ; -7.4,-1.9 7.4,-1.9
Top Paste:
  rectangle: -6.125,2.625 -5.875,3.875
  rectangle: -5.625,2.625 -5.375,3.875
  rectangle: -5.125,2.625 -4.875,3.875
  rectangle: -4.625,2.625 -4.375,3.875
  rectangle: -4.125,2.625 -3.875,3.875
  rectangle: -3.625,2.625 -3.375,3.875
  rectangle: -3.125,2.625 -2.875,3.875
  rectangle: -2.625,2.625 -2.375,3.875
  rectangle: -2.125,2.625 -1.875,3.875
  rectangle: -1.625,2.625 -1.375,3.875
  rectangle: -1.125,2.625 -0.875,3.875
  rectangle: -0.625,2.625 -0.375,3.875
  rectangle: -0.125,2.625 0.125,3.875
  rectangle: 0.375,2.625 0.625,3.875
  rectangle: 0.875,2.625 1.125,3.875
  rectangle: 1.375,2.625 1.625,3.875
  rectangle: 1.875,2.625 2.125,3.875
  rectangle: 2.375,2.625 2.625,3.875
  rectangle: 2.875,2.625 3.125,3.875
  rectangle: 3.375,2.625 3.625,3.875
  rectangle: 3.875,2.625 4.125,3.875
  rectangle: 4.375,2.625 4.625,3.875
  rectangle: 4.875,2.625 5.125,3.875
  rectangle: 5.375,2.625 5.625,3.875
  rectangle: 5.875,2.625 6.125,3.875
  region: 8.725,1.025 7.075,1.025 7.075,-1.025 8.725,-1.025
  region: -7.075,1.025 -8.725,1.025 -8.725,-1.025 -7.075,-1.025
Top Solder:
  rectangle: -6.2,2.55 -5.8,3.95
  rectangle: -5.7,2.55 -5.3,3.95
  rectangle: -5.2,2.55 -4.8,3.95
  rectangle: -4.7,2.55 -4.3,3.95
  rectangle: -4.2,2.55 -3.8,3.95
  rectangle: -3.7,2.55 -3.3,3.95
  rectangle: -3.2,2.55 -2.8,3.95
  rectangle: -2.7,2.55 -2.3,3.95
  rectangle: -2.2,2.55 -1.8,3.95
  rectangle: -1.7,2.55 -1.3,3.95
  rectangle: -1.2,2.55 -0.8,3.95
  rectangle: -0.7,2.55 -0.3,3.95
  rectangle: -0.2,2.55 0.2,3.95
  rectangle: 0.3,2.55 0.7,3.95
  rectangle: 0.8,2.55 1.2,3.95
  rectangle: 1.3,2.55 1.7,3.95
  rectangle: 1.8,2.55 2.2,3.95
  rectangle: 2.3,2.55 2.7,3.95
  rectangle: 2.8,2.55 3.2,3.95
  rectangle: 3.3,2.55 3.7,3.95
  rectangle: 3.8,2.55 4.2,3.95
  rectangle: 4.3,2.55 4.7,3.95
  rectangle: 4.8,2.55 5.2,3.95
  rectangle: 5.3,2.55 5.7,3.95
  rectangle: 5.8,2.55 6.2,3.95
  region: 8.85,1.175 6.95,1.175 6.95,-1.175 8.85,-1.175
  region: -6.95,1.175 -8.85,1.175 -8.85,-1.175 -6.95,-1.175
Mechanical 16:
  rectangle: -6.1,2.55 -5.9,3.4
  rectangle: -5.6,2.55 -5.4,3.4
  rectangle: -5.1,2.55 -4.9,3.4
  rectangle: -4.6,2.55 -4.4,3.4
  rectangle: -4.1,2.55 -3.9,3.4
  rectangle: -3.6,2.55 -3.4,3.4
  rectangle: -3.1,2.55 -2.9,3.4
  rectangle: -2.6,2.55 -2.4,3.4
  rectangle: -2.1,2.55 -1.9,3.4
  rectangle: -1.6,2.55 -1.4,3.4
  rectangle: -1.1,2.55 -0.9,3.4
  rectangle: -0.6,2.55 -0.4,3.4
  rectangle: -0.1,2.55 0.1,3.4
  rectangle: 0.4,2.55 0.6,3.4
  rectangle: 0.9,2.55 1.1,3.4
  rectangle: 1.4,2.55 1.6,3.4
  rectangle: 1.9,2.55 2.1,3.4
  rectangle: 2.4,2.55 2.6,3.4
  rectangle: 2.9,2.55 3.1,3.4
  rectangle: 3.4,2.55 3.6,3.4
  rectangle: 3.9,2.55 4.1,3.4
  rectangle: 4.4,2.55 4.6,3.4
  rectangle: 4.9,2.55 5.1,3.4
  rectangle: 5.4,2.55 5.6,3.4
  rectangle: 5.9,2.55 6.1,3.4
  lines w0.203: -7.7,-1.9 -7.7,-0.5 -8.2,-0.5 -8.2,0.5 -7.7,0.5 -7.7,2.5 7.7,2.5 7.7,0.5 8.2,0.5 8.2,-0.5 7.7,-0.5 7.7,-1.9

## FH12-26S-0.5SH [mm]
pads (26):
  rect 0.3x1.3 smd: 1(-6.25,3.25) 2(-5.75,3.25) 3(-5.25,3.25) 4(-4.75,3.25) 5(-4.25,3.25) 6(-3.75,3.25) 7(-3.25,3.25) 8(-2.75,3.25) 9(-2.25,3.25) 10(-1.75,3.25) 11(-1.25,3.25) 12(-0.75,3.25) 13(-0.25,3.25) 14(0.25,3.25) 15(0.75,3.25) 16(1.25,3.25) 17(1.75,3.25) 18(2.25,3.25) 19(2.75,3.25) 20(3.25,3.25) 21(3.75,3.25) 22(4.25,3.25) 23(4.75,3.25) 24(5.25,3.25) 25(5.75,3.25) 26(6.25,3.25)
Top Layer:
  region: 9.05,1.1 7.25,1.1 7.25,-1.1 9.05,-1.1
  region: -7.25,1.1 -9.05,1.1 -9.05,-1.1 -7.25,-1.1
Top Overlay:
  region: 0,0 0.254,0 0.254,0.254 0,0.254
  lines w0.203: -7.95,-1.5 -7.95,-1.9 -7.65,-1.9 ; -7.95,1.5 -7.95,2.5 -6.75,2.5 ; 6.75,2.5 7.95,2.5 7.95,1.5 ; 7.95,-1.5 7.95,-1.9 7.65,-1.9 ; -7.65,-1.9 -7.65,-2.2 -7.95,-2.2 -7.95,-2.9 7.95,-2.9 7.95,-2.2 7.65,-2.2 7.65,-1.9 ; -7.65,-1.9 7.65,-1.9
Top Paste:
  rectangle: -6.375,2.625 -6.125,3.875
  rectangle: -5.875,2.625 -5.625,3.875
  rectangle: -5.375,2.625 -5.125,3.875
  rectangle: -4.875,2.625 -4.625,3.875
  rectangle: -4.375,2.625 -4.125,3.875
  rectangle: -3.875,2.625 -3.625,3.875
  rectangle: -3.375,2.625 -3.125,3.875
  rectangle: -2.875,2.625 -2.625,3.875
  rectangle: -2.375,2.625 -2.125,3.875
  rectangle: -1.875,2.625 -1.625,3.875
  rectangle: -1.375,2.625 -1.125,3.875
  rectangle: -0.875,2.625 -0.625,3.875
  rectangle: -0.375,2.625 -0.125,3.875
  rectangle: 0.125,2.625 0.375,3.875
  rectangle: 0.625,2.625 0.875,3.875
  rectangle: 1.125,2.625 1.375,3.875
  rectangle: 1.625,2.625 1.875,3.875
  rectangle: 2.125,2.625 2.375,3.875
  rectangle: 2.625,2.625 2.875,3.875
  rectangle: 3.125,2.625 3.375,3.875
  rectangle: 3.625,2.625 3.875,3.875
  rectangle: 4.125,2.625 4.375,3.875
  rectangle: 4.625,2.625 4.875,3.875
  rectangle: 5.125,2.625 5.375,3.875
  rectangle: 5.625,2.625 5.875,3.875
  rectangle: 6.125,2.625 6.375,3.875
  region: 8.975,1.025 7.325,1.025 7.325,-1.025 8.975,-1.025
  region: -7.325,1.025 -8.975,1.025 -8.975,-1.025 -7.325,-1.025
Top Solder:
  rectangle: -6.45,2.55 -6.05,3.95
  rectangle: -5.95,2.55 -5.55,3.95
  rectangle: -5.45,2.55 -5.05,3.95
  rectangle: -4.95,2.55 -4.55,3.95
  rectangle: -4.45,2.55 -4.05,3.95
  rectangle: -3.95,2.55 -3.55,3.95
  rectangle: -3.45,2.55 -3.05,3.95
  rectangle: -2.95,2.55 -2.55,3.95
  rectangle: -2.45,2.55 -2.05,3.95
  rectangle: -1.95,2.55 -1.55,3.95
  rectangle: -1.45,2.55 -1.05,3.95
  rectangle: -0.95,2.55 -0.55,3.95
  rectangle: -0.45,2.55 -0.05,3.95
  rectangle: 0.05,2.55 0.45,3.95
  rectangle: 0.55,2.55 0.95,3.95
  rectangle: 1.05,2.55 1.45,3.95
  rectangle: 1.55,2.55 1.95,3.95
  rectangle: 2.05,2.55 2.45,3.95
  rectangle: 2.55,2.55 2.95,3.95
  rectangle: 3.05,2.55 3.45,3.95
  rectangle: 3.55,2.55 3.95,3.95
  rectangle: 4.05,2.55 4.45,3.95
  rectangle: 4.55,2.55 4.95,3.95
  rectangle: 5.05,2.55 5.45,3.95
  rectangle: 5.55,2.55 5.95,3.95
  rectangle: 6.05,2.55 6.45,3.95
  region: 9.1,1.175 7.2,1.175 7.2,-1.175 9.1,-1.175
  region: -7.2,1.175 -9.1,1.175 -9.1,-1.175 -7.2,-1.175
Mechanical 16:
  rectangle: -6.35,2.55 -6.15,3.4
  rectangle: -5.85,2.55 -5.65,3.4
  rectangle: -5.35,2.55 -5.15,3.4
  rectangle: -4.85,2.55 -4.65,3.4
  rectangle: -4.35,2.55 -4.15,3.4
  rectangle: -3.85,2.55 -3.65,3.4
  rectangle: -3.35,2.55 -3.15,3.4
  rectangle: -2.85,2.55 -2.65,3.4
  rectangle: -2.35,2.55 -2.15,3.4
  rectangle: -1.85,2.55 -1.65,3.4
  rectangle: -1.35,2.55 -1.15,3.4
  rectangle: -0.85,2.55 -0.65,3.4
  rectangle: -0.35,2.55 -0.15,3.4
  rectangle: 0.15,2.55 0.35,3.4
  rectangle: 0.65,2.55 0.85,3.4
  rectangle: 1.15,2.55 1.35,3.4
  rectangle: 1.65,2.55 1.85,3.4
  rectangle: 2.15,2.55 2.35,3.4
  rectangle: 2.65,2.55 2.85,3.4
  rectangle: 3.15,2.55 3.35,3.4
  rectangle: 3.65,2.55 3.85,3.4
  rectangle: 4.15,2.55 4.35,3.4
  rectangle: 4.65,2.55 4.85,3.4
  rectangle: 5.15,2.55 5.35,3.4
  rectangle: 5.65,2.55 5.85,3.4
  rectangle: 6.15,2.55 6.35,3.4
  lines w0.203: -7.95,-1.9 -7.95,-0.5 -8.45,-0.5 -8.45,0.5 -7.95,0.5 -7.95,2.5 7.95,2.5 7.95,0.5 8.45,0.5 8.45,-0.5 7.95,-0.5 7.95,-1.9

## FH12-28S-0.5SH [mm]
pads (28):
  rect 0.3x1.3 smd: 1(-6.75,3.25) 2(-6.25,3.25) 3(-5.75,3.25) 4(-5.25,3.25) 5(-4.75,3.25) 6(-4.25,3.25) 7(-3.75,3.25) 8(-3.25,3.25) 9(-2.75,3.25) 10(-2.25,3.25) 11(-1.75,3.25) 12(-1.25,3.25) 13(-0.75,3.25) 14(-0.25,3.25) 15(0.25,3.25) 16(0.75,3.25) 17(1.25,3.25) 18(1.75,3.25) 19(2.25,3.25) 20(2.75,3.25) 21(3.25,3.25) 22(3.75,3.25) 23(4.25,3.25) 24(4.75,3.25) 25(5.25,3.25) 26(5.75,3.25) 27(6.25,3.25) 28(6.75,3.25)
Top Layer:
  region: 9.55,1.1 7.75,1.1 7.75,-1.1 9.55,-1.1
  region: -7.75,1.1 -9.55,1.1 -9.55,-1.1 -7.75,-1.1
Top Overlay:
  region: 0,0 0.254,0 0.254,0.254 0,0.254
  lines w0.203: -8.45,-1.5 -8.45,-1.9 -8.15,-1.9 ; -8.45,1.5 -8.45,2.5 -7.25,2.5 ; 7.25,2.5 8.45,2.5 8.45,1.5 ; 8.45,-1.5 8.45,-1.9 8.15,-1.9 ; -8.15,-1.9 -8.15,-2.2 -8.45,-2.2 -8.45,-2.9 8.45,-2.9 8.45,-2.2 8.15,-2.2 8.15,-1.9 ; -8.15,-1.9 8.15,-1.9
Top Paste:
  rectangle: -6.875,2.625 -6.625,3.875
  rectangle: -6.375,2.625 -6.125,3.875
  rectangle: -5.875,2.625 -5.625,3.875
  rectangle: -5.375,2.625 -5.125,3.875
  rectangle: -4.875,2.625 -4.625,3.875
  rectangle: -4.375,2.625 -4.125,3.875
  rectangle: -3.875,2.625 -3.625,3.875
  rectangle: -3.375,2.625 -3.125,3.875
  rectangle: -2.875,2.625 -2.625,3.875
  rectangle: -2.375,2.625 -2.125,3.875
  rectangle: -1.875,2.625 -1.625,3.875
  rectangle: -1.375,2.625 -1.125,3.875
  rectangle: -0.875,2.625 -0.625,3.875
  rectangle: -0.375,2.625 -0.125,3.875
  rectangle: 0.125,2.625 0.375,3.875
  rectangle: 0.625,2.625 0.875,3.875
  rectangle: 1.125,2.625 1.375,3.875
  rectangle: 1.625,2.625 1.875,3.875
  rectangle: 2.125,2.625 2.375,3.875
  rectangle: 2.625,2.625 2.875,3.875
  rectangle: 3.125,2.625 3.375,3.875
  rectangle: 3.625,2.625 3.875,3.875
  rectangle: 4.125,2.625 4.375,3.875
  rectangle: 4.625,2.625 4.875,3.875
  rectangle: 5.125,2.625 5.375,3.875
  rectangle: 5.625,2.625 5.875,3.875
  rectangle: 6.125,2.625 6.375,3.875
  rectangle: 6.625,2.625 6.875,3.875
  region: 9.475,1.025 7.825,1.025 7.825,-1.025 9.475,-1.025
  region: -7.825,1.025 -9.475,1.025 -9.475,-1.025 -7.825,-1.025
Top Solder:
  rectangle: -6.95,2.55 -6.55,3.95
  rectangle: -6.45,2.55 -6.05,3.95
  rectangle: -5.95,2.55 -5.55,3.95
  rectangle: -5.45,2.55 -5.05,3.95
  rectangle: -4.95,2.55 -4.55,3.95
  rectangle: -4.45,2.55 -4.05,3.95
  rectangle: -3.95,2.55 -3.55,3.95
  rectangle: -3.45,2.55 -3.05,3.95
  rectangle: -2.95,2.55 -2.55,3.95
  rectangle: -2.45,2.55 -2.05,3.95
  rectangle: -1.95,2.55 -1.55,3.95
  rectangle: -1.45,2.55 -1.05,3.95
  rectangle: -0.95,2.55 -0.55,3.95
  rectangle: -0.45,2.55 -0.05,3.95
  rectangle: 0.05,2.55 0.45,3.95
  rectangle: 0.55,2.55 0.95,3.95
  rectangle: 1.05,2.55 1.45,3.95
  rectangle: 1.55,2.55 1.95,3.95
  rectangle: 2.05,2.55 2.45,3.95
  rectangle: 2.55,2.55 2.95,3.95
  rectangle: 3.05,2.55 3.45,3.95
  rectangle: 3.55,2.55 3.95,3.95
  rectangle: 4.05,2.55 4.45,3.95
  rectangle: 4.55,2.55 4.95,3.95
  rectangle: 5.05,2.55 5.45,3.95
  rectangle: 5.55,2.55 5.95,3.95
  rectangle: 6.05,2.55 6.45,3.95
  rectangle: 6.55,2.55 6.95,3.95
  region: 9.6,1.175 7.7,1.175 7.7,-1.175 9.6,-1.175
  region: -7.7,1.175 -9.6,1.175 -9.6,-1.175 -7.7,-1.175
Mechanical 16:
  rectangle: -6.85,2.55 -6.65,3.4
  rectangle: -6.35,2.55 -6.15,3.4
  rectangle: -5.85,2.55 -5.65,3.4
  rectangle: -5.35,2.55 -5.15,3.4
  rectangle: -4.85,2.55 -4.65,3.4
  rectangle: -4.35,2.55 -4.15,3.4
  rectangle: -3.85,2.55 -3.65,3.4
  rectangle: -3.35,2.55 -3.15,3.4
  rectangle: -2.85,2.55 -2.65,3.4
  rectangle: -2.35,2.55 -2.15,3.4
  rectangle: -1.85,2.55 -1.65,3.4
  rectangle: -1.35,2.55 -1.15,3.4
  rectangle: -0.85,2.55 -0.65,3.4
  rectangle: -0.35,2.55 -0.15,3.4
  rectangle: 0.15,2.55 0.35,3.4
  rectangle: 0.65,2.55 0.85,3.4
  rectangle: 1.15,2.55 1.35,3.4
  rectangle: 1.65,2.55 1.85,3.4
  rectangle: 2.15,2.55 2.35,3.4
  rectangle: 2.65,2.55 2.85,3.4
  rectangle: 3.15,2.55 3.35,3.4
  rectangle: 3.65,2.55 3.85,3.4
  rectangle: 4.15,2.55 4.35,3.4
  rectangle: 4.65,2.55 4.85,3.4
  rectangle: 5.15,2.55 5.35,3.4
  rectangle: 5.65,2.55 5.85,3.4
  rectangle: 6.15,2.55 6.35,3.4
  rectangle: 6.65,2.55 6.85,3.4
  lines w0.203: -8.45,-1.9 -8.45,-0.5 -8.95,-0.5 -8.95,0.5 -8.45,0.5 -8.45,2.5 8.45,2.5 8.45,0.5 8.95,0.5 8.95,-0.5 8.45,-0.5 8.45,-1.9

## FH12-30S-0.5SH [mm]
pads (30):
  rect 0.3x1.3 smd: 1(-7.25,3.25) 2(-6.75,3.25) 3(-6.25,3.25) 4(-5.75,3.25) 5(-5.25,3.25) 6(-4.75,3.25) 7(-4.25,3.25) 8(-3.75,3.25) 9(-3.25,3.25) 10(-2.75,3.25) 11(-2.25,3.25) 12(-1.75,3.25) 13(-1.25,3.25) 14(-0.75,3.25) 15(-0.25,3.25) 16(0.25,3.25) 17(0.75,3.25) 18(1.25,3.25) 19(1.75,3.25) 20(2.25,3.25) 21(2.75,3.25) 22(3.25,3.25) 23(3.75,3.25) 24(4.25,3.25) 25(4.75,3.25) 26(5.25,3.25) 27(5.75,3.25) 28(6.25,3.25) 29(6.75,3.25) 30(7.25,3.25)
Top Layer:
  region: 10.05,1.1 8.25,1.1 8.25,-1.1 10.05,-1.1
  region: -8.25,1.1 -10.05,1.1 -10.05,-1.1 -8.25,-1.1
Top Overlay:
  region: 0,0 0.254,0 0.254,0.254 0,0.254
  lines w0.203: -8.95,-1.5 -8.95,-1.9 -8.65,-1.9 ; -8.95,1.5 -8.95,2.5 -7.75,2.5 ; 7.75,2.5 8.95,2.5 8.95,1.5 ; 8.95,-1.5 8.95,-1.9 8.65,-1.9 ; -8.65,-1.9 -8.65,-2.2 -8.95,-2.2 -8.95,-2.9 8.95,-2.9 8.95,-2.2 8.65,-2.2 8.65,-1.9 ; -8.65,-1.9 8.65,-1.9
Top Paste:
  rectangle: -7.375,2.625 -7.125,3.875
  rectangle: -6.875,2.625 -6.625,3.875
  rectangle: -6.375,2.625 -6.125,3.875
  rectangle: -5.875,2.625 -5.625,3.875
  rectangle: -5.375,2.625 -5.125,3.875
  rectangle: -4.875,2.625 -4.625,3.875
  rectangle: -4.375,2.625 -4.125,3.875
  rectangle: -3.875,2.625 -3.625,3.875
  rectangle: -3.375,2.625 -3.125,3.875
  rectangle: -2.875,2.625 -2.625,3.875
  rectangle: -2.375,2.625 -2.125,3.875
  rectangle: -1.875,2.625 -1.625,3.875
  rectangle: -1.375,2.625 -1.125,3.875
  rectangle: -0.875,2.625 -0.625,3.875
  rectangle: -0.375,2.625 -0.125,3.875
  rectangle: 0.125,2.625 0.375,3.875
  rectangle: 0.625,2.625 0.875,3.875
  rectangle: 1.125,2.625 1.375,3.875
  rectangle: 1.625,2.625 1.875,3.875
  rectangle: 2.125,2.625 2.375,3.875
  rectangle: 2.625,2.625 2.875,3.875
  rectangle: 3.125,2.625 3.375,3.875
  rectangle: 3.625,2.625 3.875,3.875
  rectangle: 4.125,2.625 4.375,3.875
  rectangle: 4.625,2.625 4.875,3.875
  rectangle: 5.125,2.625 5.375,3.875
  rectangle: 5.625,2.625 5.875,3.875
  rectangle: 6.125,2.625 6.375,3.875
  rectangle: 6.625,2.625 6.875,3.875
  rectangle: 7.125,2.625 7.375,3.875
  region: 9.975,1.025 8.325,1.025 8.325,-1.025 9.975,-1.025
  region: -8.325,1.025 -9.975,1.025 -9.975,-1.025 -8.325,-1.025
Top Solder:
  rectangle: -7.45,2.55 -7.05,3.95
  rectangle: -6.95,2.55 -6.55,3.95
  rectangle: -6.45,2.55 -6.05,3.95
  rectangle: -5.95,2.55 -5.55,3.95
  rectangle: -5.45,2.55 -5.05,3.95
  rectangle: -4.95,2.55 -4.55,3.95
  rectangle: -4.45,2.55 -4.05,3.95
  rectangle: -3.95,2.55 -3.55,3.95
  rectangle: -3.45,2.55 -3.05,3.95
  rectangle: -2.95,2.55 -2.55,3.95
  rectangle: -2.45,2.55 -2.05,3.95
  rectangle: -1.95,2.55 -1.55,3.95
  rectangle: -1.45,2.55 -1.05,3.95
  rectangle: -0.95,2.55 -0.55,3.95
  rectangle: -0.45,2.55 -0.05,3.95
  rectangle: 0.05,2.55 0.45,3.95
  rectangle: 0.55,2.55 0.95,3.95
  rectangle: 1.05,2.55 1.45,3.95
  rectangle: 1.55,2.55 1.95,3.95
  rectangle: 2.05,2.55 2.45,3.95
  rectangle: 2.55,2.55 2.95,3.95
  rectangle: 3.05,2.55 3.45,3.95
  rectangle: 3.55,2.55 3.95,3.95
  rectangle: 4.05,2.55 4.45,3.95
  rectangle: 4.55,2.55 4.95,3.95
  rectangle: 5.05,2.55 5.45,3.95
  rectangle: 5.55,2.55 5.95,3.95
  rectangle: 6.05,2.55 6.45,3.95
  rectangle: 6.55,2.55 6.95,3.95
  rectangle: 7.05,2.55 7.45,3.95
  region: 10.1,1.175 8.2,1.175 8.2,-1.175 10.1,-1.175
  region: -8.2,1.175 -10.1,1.175 -10.1,-1.175 -8.2,-1.175
Mechanical 16:
  rectangle: -7.35,2.55 -7.15,3.4
  rectangle: -6.85,2.55 -6.65,3.4
  rectangle: -6.35,2.55 -6.15,3.4
  rectangle: -5.85,2.55 -5.65,3.4
  rectangle: -5.35,2.55 -5.15,3.4
  rectangle: -4.85,2.55 -4.65,3.4
  rectangle: -4.35,2.55 -4.15,3.4
  rectangle: -3.85,2.55 -3.65,3.4
  rectangle: -3.35,2.55 -3.15,3.4
  rectangle: -2.85,2.55 -2.65,3.4
  rectangle: -2.35,2.55 -2.15,3.4
  rectangle: -1.85,2.55 -1.65,3.4
  rectangle: -1.35,2.55 -1.15,3.4
  rectangle: -0.85,2.55 -0.65,3.4
  rectangle: -0.35,2.55 -0.15,3.4
  rectangle: 0.15,2.55 0.35,3.4
  rectangle: 0.65,2.55 0.85,3.4
  rectangle: 1.15,2.55 1.35,3.4
  rectangle: 1.65,2.55 1.85,3.4
  rectangle: 2.15,2.55 2.35,3.4
  rectangle: 2.65,2.55 2.85,3.4
  rectangle: 3.15,2.55 3.35,3.4
  rectangle: 3.65,2.55 3.85,3.4
  rectangle: 4.15,2.55 4.35,3.4
  rectangle: 4.65,2.55 4.85,3.4
  rectangle: 5.15,2.55 5.35,3.4
  rectangle: 5.65,2.55 5.85,3.4
  rectangle: 6.15,2.55 6.35,3.4
  rectangle: 6.65,2.55 6.85,3.4
  rectangle: 7.15,2.55 7.35,3.4
  lines w0.203: -8.95,-1.9 -8.95,-0.5 -9.45,-0.5 -9.45,0.5 -8.95,0.5 -8.95,2.5 8.95,2.5 8.95,0.5 9.45,0.5 9.45,-0.5 8.95,-0.5 8.95,-1.9

## FH12-32S-0.5SH [mm]
pads (32):
  rect 0.3x1.3 smd: 1(-7.75,3.25) 2(-7.25,3.25) 3(-6.75,3.25) 4(-6.25,3.25) 5(-5.75,3.25) 6(-5.25,3.25) 7(-4.75,3.25) 8(-4.25,3.25) 9(-3.75,3.25) 10(-3.25,3.25) 11(-2.75,3.25) 12(-2.25,3.25) 13(-1.75,3.25) 14(-1.25,3.25) 15(-0.75,3.25) 16(-0.25,3.25) 17(0.25,3.25) 18(0.75,3.25) 19(1.25,3.25) 20(1.75,3.25) 21(2.25,3.25) 22(2.75,3.25) 23(3.25,3.25) 24(3.75,3.25) 25(4.25,3.25) 26(4.75,3.25) 27(5.25,3.25) 28(5.75,3.25) 29(6.25,3.25) 30(6.75,3.25) 31(7.25,3.25) 32(7.75,3.25)
Top Layer:
  region: 10.55,1.1 8.75,1.1 8.75,-1.1 10.55,-1.1
  region: -8.75,1.1 -10.55,1.1 -10.55,-1.1 -8.75,-1.1
Top Overlay:
  region: 0,0 0.254,0 0.254,0.254 0,0.254
  lines w0.203: -9.45,-1.5 -9.45,-1.9 -9.15,-1.9 ; -9.45,1.5 -9.45,2.5 -8.25,2.5 ; 8.25,2.5 9.45,2.5 9.45,1.5 ; 9.45,-1.5 9.45,-1.9 9.15,-1.9 ; -9.15,-1.9 -9.15,-2.2 -9.45,-2.2 -9.45,-2.9 9.45,-2.9 9.45,-2.2 9.15,-2.2 9.15,-1.9 ; -9.15,-1.9 9.15,-1.9
Top Paste:
  rectangle: -7.875,2.625 -7.625,3.875
  rectangle: -7.375,2.625 -7.125,3.875
  rectangle: -6.875,2.625 -6.625,3.875
  rectangle: -6.375,2.625 -6.125,3.875
  rectangle: -5.875,2.625 -5.625,3.875
  rectangle: -5.375,2.625 -5.125,3.875
  rectangle: -4.875,2.625 -4.625,3.875
  rectangle: -4.375,2.625 -4.125,3.875
  rectangle: -3.875,2.625 -3.625,3.875
  rectangle: -3.375,2.625 -3.125,3.875
  rectangle: -2.875,2.625 -2.625,3.875
  rectangle: -2.375,2.625 -2.125,3.875
  rectangle: -1.875,2.625 -1.625,3.875
  rectangle: -1.375,2.625 -1.125,3.875
  rectangle: -0.875,2.625 -0.625,3.875
  rectangle: -0.375,2.625 -0.125,3.875
  rectangle: 0.125,2.625 0.375,3.875
  rectangle: 0.625,2.625 0.875,3.875
  rectangle: 1.125,2.625 1.375,3.875
  rectangle: 1.625,2.625 1.875,3.875
  rectangle: 2.125,2.625 2.375,3.875
  rectangle: 2.625,2.625 2.875,3.875
  rectangle: 3.125,2.625 3.375,3.875
  rectangle: 3.625,2.625 3.875,3.875
  rectangle: 4.125,2.625 4.375,3.875
  rectangle: 4.625,2.625 4.875,3.875
  rectangle: 5.125,2.625 5.375,3.875
  rectangle: 5.625,2.625 5.875,3.875
  rectangle: 6.125,2.625 6.375,3.875
  rectangle: 6.625,2.625 6.875,3.875
  rectangle: 7.125,2.625 7.375,3.875
  rectangle: 7.625,2.625 7.875,3.875
  region: 10.475,1.025 8.825,1.025 8.825,-1.025 10.475,-1.025
  region: -8.825,1.025 -10.475,1.025 -10.475,-1.025 -8.825,-1.025
Top Solder:
  rectangle: -7.95,2.55 -7.55,3.95
  rectangle: -7.45,2.55 -7.05,3.95
  rectangle: -6.95,2.55 -6.55,3.95
  rectangle: -6.45,2.55 -6.05,3.95
  rectangle: -5.95,2.55 -5.55,3.95
  rectangle: -5.45,2.55 -5.05,3.95
  rectangle: -4.95,2.55 -4.55,3.95
  rectangle: -4.45,2.55 -4.05,3.95
  rectangle: -3.95,2.55 -3.55,3.95
  rectangle: -3.45,2.55 -3.05,3.95
  rectangle: -2.95,2.55 -2.55,3.95
  rectangle: -2.45,2.55 -2.05,3.95
  rectangle: -1.95,2.55 -1.55,3.95
  rectangle: -1.45,2.55 -1.05,3.95
  rectangle: -0.95,2.55 -0.55,3.95
  rectangle: -0.45,2.55 -0.05,3.95
  rectangle: 0.05,2.55 0.45,3.95
  rectangle: 0.55,2.55 0.95,3.95
  rectangle: 1.05,2.55 1.45,3.95
  rectangle: 1.55,2.55 1.95,3.95
  rectangle: 2.05,2.55 2.45,3.95
  rectangle: 2.55,2.55 2.95,3.95
  rectangle: 3.05,2.55 3.45,3.95
  rectangle: 3.55,2.55 3.95,3.95
  rectangle: 4.05,2.55 4.45,3.95
  rectangle: 4.55,2.55 4.95,3.95
  rectangle: 5.05,2.55 5.45,3.95
  rectangle: 5.55,2.55 5.95,3.95
  rectangle: 6.05,2.55 6.45,3.95
  rectangle: 6.55,2.55 6.95,3.95
  rectangle: 7.05,2.55 7.45,3.95
  rectangle: 7.55,2.55 7.95,3.95
  region: 10.6,1.175 8.7,1.175 8.7,-1.175 10.6,-1.175
  region: -8.7,1.175 -10.6,1.175 -10.6,-1.175 -8.7,-1.175
Mechanical 16:
  rectangle: -7.85,2.55 -7.65,3.4
  rectangle: -7.35,2.55 -7.15,3.4
  rectangle: -6.85,2.55 -6.65,3.4
  rectangle: -6.35,2.55 -6.15,3.4
  rectangle: -5.85,2.55 -5.65,3.4
  rectangle: -5.35,2.55 -5.15,3.4
  rectangle: -4.85,2.55 -4.65,3.4
  rectangle: -4.35,2.55 -4.15,3.4
  rectangle: -3.85,2.55 -3.65,3.4
  rectangle: -3.35,2.55 -3.15,3.4
  rectangle: -2.85,2.55 -2.65,3.4
  rectangle: -2.35,2.55 -2.15,3.4
  rectangle: -1.85,2.55 -1.65,3.4
  rectangle: -1.35,2.55 -1.15,3.4
  rectangle: -0.85,2.55 -0.65,3.4
  rectangle: -0.35,2.55 -0.15,3.4
  rectangle: 0.15,2.55 0.35,3.4
  rectangle: 0.65,2.55 0.85,3.4
  rectangle: 1.15,2.55 1.35,3.4
  rectangle: 1.65,2.55 1.85,3.4
  rectangle: 2.15,2.55 2.35,3.4
  rectangle: 2.65,2.55 2.85,3.4
  rectangle: 3.15,2.55 3.35,3.4
  rectangle: 3.65,2.55 3.85,3.4
  rectangle: 4.15,2.55 4.35,3.4
  rectangle: 4.65,2.55 4.85,3.4
  rectangle: 5.15,2.55 5.35,3.4
  rectangle: 5.65,2.55 5.85,3.4
  rectangle: 6.15,2.55 6.35,3.4
  rectangle: 6.65,2.55 6.85,3.4
  rectangle: 7.15,2.55 7.35,3.4
  rectangle: 7.65,2.55 7.85,3.4
  lines w0.203: -9.45,-1.9 -9.45,-0.5 -9.95,-0.5 -9.95,0.5 -9.45,0.5 -9.45,2.5 9.45,2.5 9.45,0.5 9.95,0.5 9.95,-0.5 9.45,-0.5 9.45,-1.9